# Altium footprint library ComponentLibrary.PcbLib: 153 footprints (part 2 of 10)
Each footprint in its own frame and in the unit in brackets; x right, y up, seen from the top. Pads: shape width x height; smd on the part's side, far side on the other; paste and mask are expansions set on the pad; w line width, h text height; cw(c..) or ccw(c..) is an arc to the next point about the centre after c.
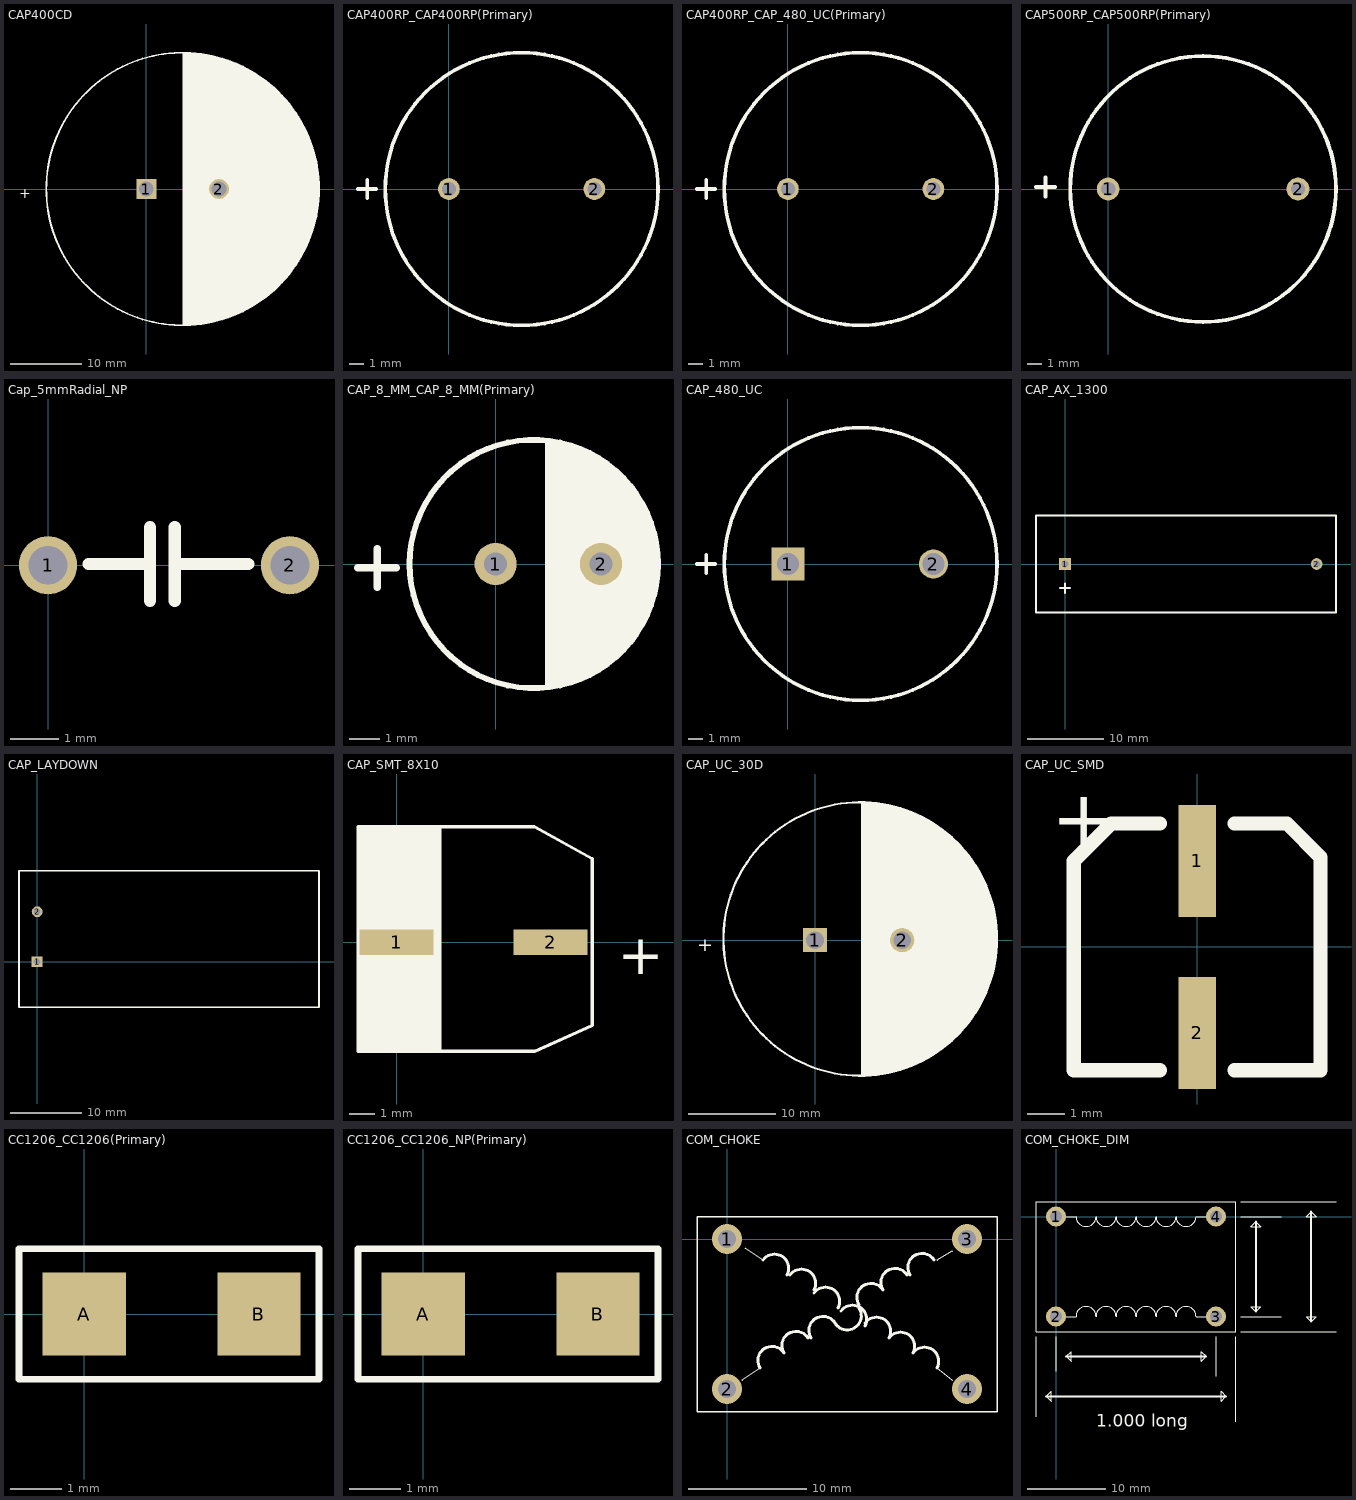
[diagram p1: the footprints below, top view; thin cyan lines are the x and y axes]

## CAP400CD [mil]
pads (2):
  rect 110x110 hole 80: 1(0,0)
  round 110 hole 80: 2(400,0)
Top Overlay:
  circle w10: c200,0 r750
  region: 200,-750 335,-740 420,-720 485,-695 540,-670 600,-635 670,-585 715,-550 760,-500 800,-450 840,-395 875,-335 905,-250 920,-205 940,-150 950,-50 950,0 950,50 945,100 940,150 920,205 890,295 860,360 800,450 760,500 730,530 705,555 650,600 600,640 550,660 495,695 450,705 410,720 380,725 350,735 300,745 200,750
  text "+" at -700,-50 h56.88

## CAP400RP_CAP400RP(Primary) [mil]
pads (2):
  round 60 hole 38: 1(0,0) 2(400,0)
Top Overlay:
  circle w10: c200,0 r375
  lines w10: -250,0 -200,0 ; -225,-25 -225,25

## CAP400RP_CAP_480_UC(Primary) [mil]
pads (2):
  round 60 hole 38: 1(0,0) 2(400,0)
Top Overlay:
  circle w10: c200,0 r375
  lines w10: -250,0 -200,0 ; -225,-25 -225,25

## CAP500RP_CAP500RP(Primary) [mil]
pads (2):
  round 60 hole 38: 1(0,0) 2(500,0)
Top Overlay:
  circle w10: c250,0 r350
  lines w10: -190,5 -140,5 ; -165,-20 -165,30

## Cap_5mmRadial_NP [mm]
pads (2):
  round 1.2 hole 0.8: 1(0,0) 2(5,0)
Top Overlay:
  lines w0.254: 0.838,0.025 2.108,0.025 2.108,0.787 2.108,-0.737 ; 2.616,-0.737 2.616,0.787 2.616,0.025 4.14,0.025

## CAP_8_MM_CAP_8_MM(Primary) [mil]
pads (2):
  round 55 hole 30: 1(0,0) 2(138,0)
Top Overlay:
  circle w7.5: c50,0 r162.5
  region: 65,160 65,-160 90,-160 150,-130 185,-90 210,-40 210,30 195,80 150,130 105,155
  lines w10: -180,-5 -130,-5 ; -155,-30 -155,20

## CAP_480_UC [mil]
pads (2):
  rect 90x90 hole 60: 1(0,0)
  round 80 hole 60: 2(400,0)
Top Overlay:
  circle w10: c200,0 r375
  lines w10: -250,0 -200,0 ; -225,-25 -225,25

## CAP_AX_1300 [mil]
pads (2):
  rect 60x60 hole 38: 1(0,0)
  round 60 hole 38: 2(1300,0)
Top Overlay:
  lines w10: -25,-125 25,-125 ; 0,-150 0,-100 ; -150,-250 -150,250 1400,250 1400,-250 -150,-250

## CAP_LAYDOWN [mil]
pads (2):
  rect 60x60 hole 38: 1(0,0)
  round 60 hole 38: 2(0,275)
Top Overlay:
  lines w10: -100,-250 -100,500 1550,500 1550,-250 -100,-250

## CAP_SMT_8X10 [mil]
pads (2):
  rect 115x40 smd: 1(0,0) 2(240,0)
Top Overlay:
  region: -60,180 -60,-170 70,-170 70,180
  lines w5: -60,-170 215,-170 305,-130 305,130 215,180 -60,180 -60,-170
  text "+" at 345,-50 h62.5

## CAP_UC_30D [mil]
pads (2):
  rect 110x110 hole 80: 1(0,0)
  round 110 hole 80: 2(395,0)
Top Overlay:
  circle w10: c205,5 r620.02
  region: 210,625 210,-610 290,-610 355,-595 415,-580 475,-555 540,-515 590,-480 635,-445 665,-410 695,-375 735,-315 770,-245 810,-135 820,-65 825,10 820,70 815,120 800,175 780,235 750,300 720,350 695,385 660,425 620,465 580,500 535,530 480,560 435,580 375,600 310,615
  text "+" at -535,-50 h62.5

## CAP_UC_SMD [mm]
height 8
pads (2):
  rect 1x3 smd: 1(0,2.3) 2(0,-2.3)
Top Overlay:
  lines w0.381: -1,-3.3 -3.3,-3.3 -3.3,2.3 -2.3,3.3 -1,3.3 ; 1,-3.3 3.3,-3.3 3.3,2.4 2.4,3.3 1,3.3
  text "+" at -3.9,2.7 h1.52

## CC1206_CC1206(Primary) [mil]
pads (2):
  rect 64x64 smd: A(0,0) B(134,0)
Top Overlay:
  lines w5: -50,-50 -50,50 180,50 180,-50 -50,-50

## CC1206_CC1206_NP(Primary) [mil]
pads (2):
  rect 64x64 smd: A(0,0) B(134,0)
Top Overlay:
  lines w5: -50,-50 180,-50 180,50 -50,50 -50,-50

## COM_CHOKE [mil]
pads (4):
  round 100 hole 60: 1(0,0) 2(0,-500) 3(800,0) 4(800,-500)
Top Overlay:
  lines w5: 50,-470 110,-430 ; 60,-30 120,-70 ; 700,-430 750,-470 ; 700,-70 750,-40 ; -100,-575 900,-575 900,75 -100,75 -100,-575
  lines w10: 110,-430 cw(c150,-405) 190,-380 cw(c230,-355) 270,-330 ; 120,-70 cw(c158.31,-97.7) 200,-120 ; 210,-120 cw(c248.31,-147.7) 290,-170 ; 280,-330 cw(c320,-305) 360,-280 ccw(c400.56,-255.9) 440,-230 ; 290,-180 cw(c328.31,-207.7) 370,-230 ; 380,-240 cw(c418.31,-267.7) 460,-290 ; 440,-220 cw(c480,-195) 520,-170 cw(c560,-145) 600,-120 ; 460,-280 cw(c498.31,-307.7) 540,-330 cw(c578.31,-357.7) 620,-380 cw(c658.31,-407.7) 700,-430 ; 610,-120 cw(c650,-95) 690,-70

## COM_CHOKE_DIM [mil]
pads (4):
  round 100 hole 60: 1(0,0) 2(0,-500) 3(800,-500) 4(800,0)
Top Overlay:
  lines w5: -100,-1000 -100,-600 ; 0,-775 0,-600 ; 50,-500 100,-500 cw(c150,-500) 200,-500 cw(c250,-500) 300,-500 cw(c350,-500) 400,-500 cw(c450,-500) 500,-500 cw(c550,-500) 600,-500 cw(c650,-500) 700,-500 750,-500 ; 50,0 100,0 ccw(c150,0) 200,0 ccw(c250,0) 300,0 ccw(c350,0) 400,0 ccw(c450,0) 500,0 ccw(c550,0) 600,0 ccw(c650,0) 700,0 750,0 ; 800,-800 800,-600 ; 900,-1025 900,-600 ; 925,-575 1400,-575 ; 925,-500 1125,-500 ; 925,0 1125,0 ; 925,75 1400,75 ; -100,-575 900,-575 900,75 -100,75 -100,-575 ; -50,-900 -25,-875 -25,-925 -50,-900 ; 50,-700 75,-675 75,-725 50,-700 ; 725,-725 750,-700 725,-675 725,-725 ; 825,-925 850,-900 825,-875 825,-925 ; 975,-450 1000,-475 1025,-450 975,-450 ; 975,-50 1025,-50 1000,-25 975,-50 ; 1250,-500 1300,-500 1275,-525 1250,-500 ; 1250,0 1300,0 1275,25 1250,0
  lines w10: -50,-900 850,-900 ; 50,-700 750,-700 ; 1000,-475 1000,-25 ; 1275,-525 1275,25
  text "1.000 long" at 200,-1050 h62.5
  text ".800 long" at 200,-800 h62.5
  text ".600 wide" at 1400,-475 h62.5
  text ".500 wide" at 1125,-475 h62.5